# Altium schematic symbol library TPS3110.SchLib: 1 symbol
Pins are listed as number, name and electrical type; pins without a type are passive.

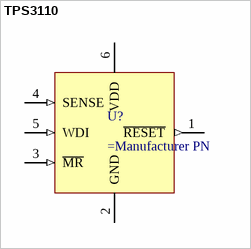
[diagram p0: symbol TPS3110]

## TPS3110
designator U?
Power On Reset IC
pins: 1 ~{RESET} (out), 2 GND (power), 3 ~{MR} (in), 4 SENSE (in), 5 WDI (in), 6 VDD (power)